# EAGLE library part JPQ-10- (library jumpers)
Jumper Block
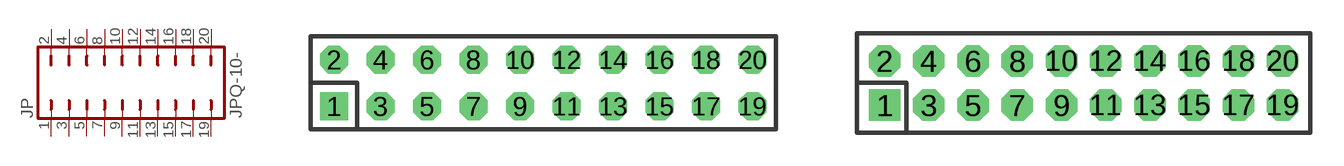
[diagram p15: symbol with the pads of JPQ-10; footprints JPQ-10, JPQ-10M]

Designator prefix JP

## JPQ-10-100  [JPQ-10]
1  1  pas
2  2  pas
3  3  pas
4  4  pas
5  5  pas
6  6  pas
7  7  pas
8  8  pas
9  9  pas
10  10  pas
11  11  pas
12  12  pas
13  13  pas
14  14  pas
15  15  pas
16  16  pas
17  17  pas
18  18  pas
19  19  pas
20  20  pas

## JPQ-10-2MM  [JPQ-10M]
Pads as for JPQ-10

## Footprint JPQ-10 (pad centres in mm)
JUMPER - 0.1" Pitch
drill 1.016 square: 1 -11.43,-1.27
drill 1.016 octagon: 2 -11.43,1.27; 3 -8.89,-1.27; 4 -8.89,1.27; 5 -6.35,-1.27; 6 -6.35,1.27; 7 -3.81,-1.27; 8 -3.81,1.27; 9 -1.27,-1.27; 10 -1.27,1.27; 11 1.27,-1.27; 12 1.27,1.27; 13 3.81,-1.27; 14 3.81,1.27; 15 6.35,-1.27; 16 6.35,1.27; 17 8.89,-1.27; 18 8.89,1.27; 19 11.43,-1.27; 20 11.43,1.27

## Footprint JPQ-10M (pad centres in mm)
JUMPER - 2.00mm (.079") Pitch
drill 0.914 square: 1 -9,-1
drill 0.914 octagon: 2 -9,1; 3 -7,-1; 4 -7,1; 5 -5,-1; 6 -5,1; 7 -3,-1; 8 -3,1; 9 -1,-1; 10 -1,1; 11 1,-1; 12 1,1; 13 3,-1; 14 3,1; 15 5,-1; 16 5,1; 17 7,-1; 18 7,1; 19 9,-1; 20 9,1